# EAGLE library part XL6009E1 (library Power_Buggy_Parts)
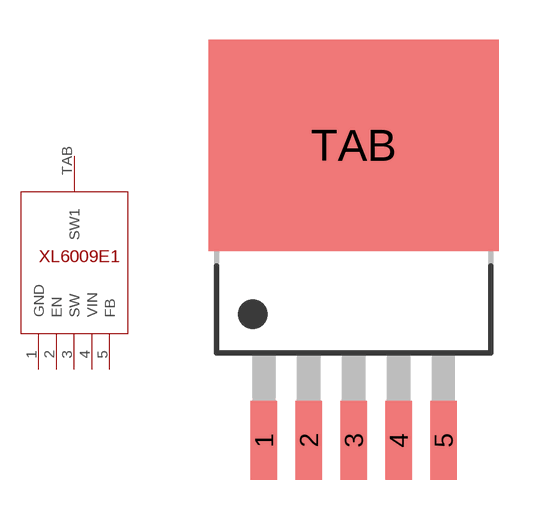
[diagram p2: symbol with the pads of TO263_5; footprint TO263_5]

Designator prefix -

## XL6009E1  [TO263_5]
1  GND
2  EN
3  SW
4  VIN
5  FB
TAB  SW1

## Footprint TO263_5 (pad centres in mm)
TO-263 5-LEAD (TV) Source: ON Semiconductor .. 4101.pdf
smd 1 x 3: 1 -3.4,-8; 2 -1.7,-8; 3 0,-8; 4 1.7,-8; 5 3.4,-8
smd 11 x 8: TAB 0,3.175